# EAGLE library part 28C16 (library ds_ic_memory)
16K (2K x 8) Parallel EEPROMs
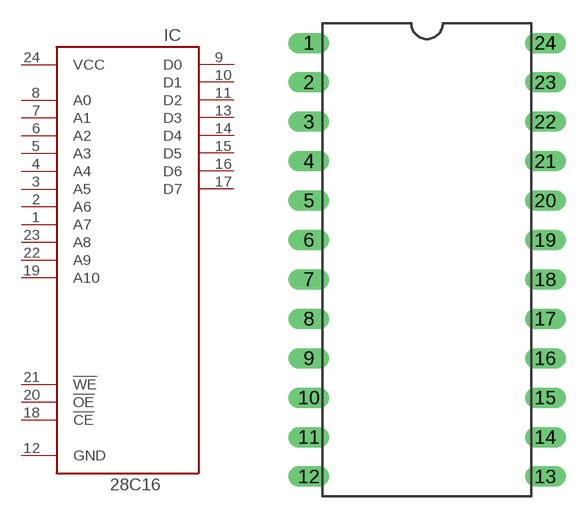
[diagram p12: symbol with the pads of DIP24; footprint DIP24]

Designator prefix IC

## 28C16 (DATASHEET: https://www.microchip.com/content/dam/mchp/documents/OTH/ProductDocuments/DataSheets/doc0258.pdf; DESCRIPTION: 16K (2K x 8) Parallel EEPROMs; VALUE: AT28C16)  [DIP24]
1  A7
2  A6
3  A5
4  A4
5  A3
6  A2
7  A1
8  A0
9  D0
10  D1
11  D2
12  GND
13  D3
14  D4
15  D5
16  D6
17  D7
18  !CE
19  A10
20  !OE
21  !WE
22  A9
23  A8
24  VCC

## Footprint DIP24 (pad centres in mm)
drill 0.813 long: 1 -7.62,15.24; 2 -7.62,12.7; 3 -7.62,10.16; 4 -7.62,7.62; 5 -7.62,5.08; 6 -7.62,2.54; 7 -7.62,0; 8 -7.62,-2.54; 9 -7.62,-5.08; 10 -7.62,-7.62; 11 -7.62,-10.16; 12 -7.62,-12.7; 13 7.62,-12.7; 14 7.62,-10.16; 15 7.62,-7.62; 16 7.62,-5.08; 17 7.62,-2.54; 18 7.62,0; 19 7.62,2.54; 20 7.62,5.08; 21 7.62,7.62; 22 7.62,10.16; 23 7.62,12.7; 24 7.62,15.24